# Altium integrated library Infineon_Power_Smart_Low-Side_&_High-Side_Switches.IntLib: 238 symbols (part 7 of 14)
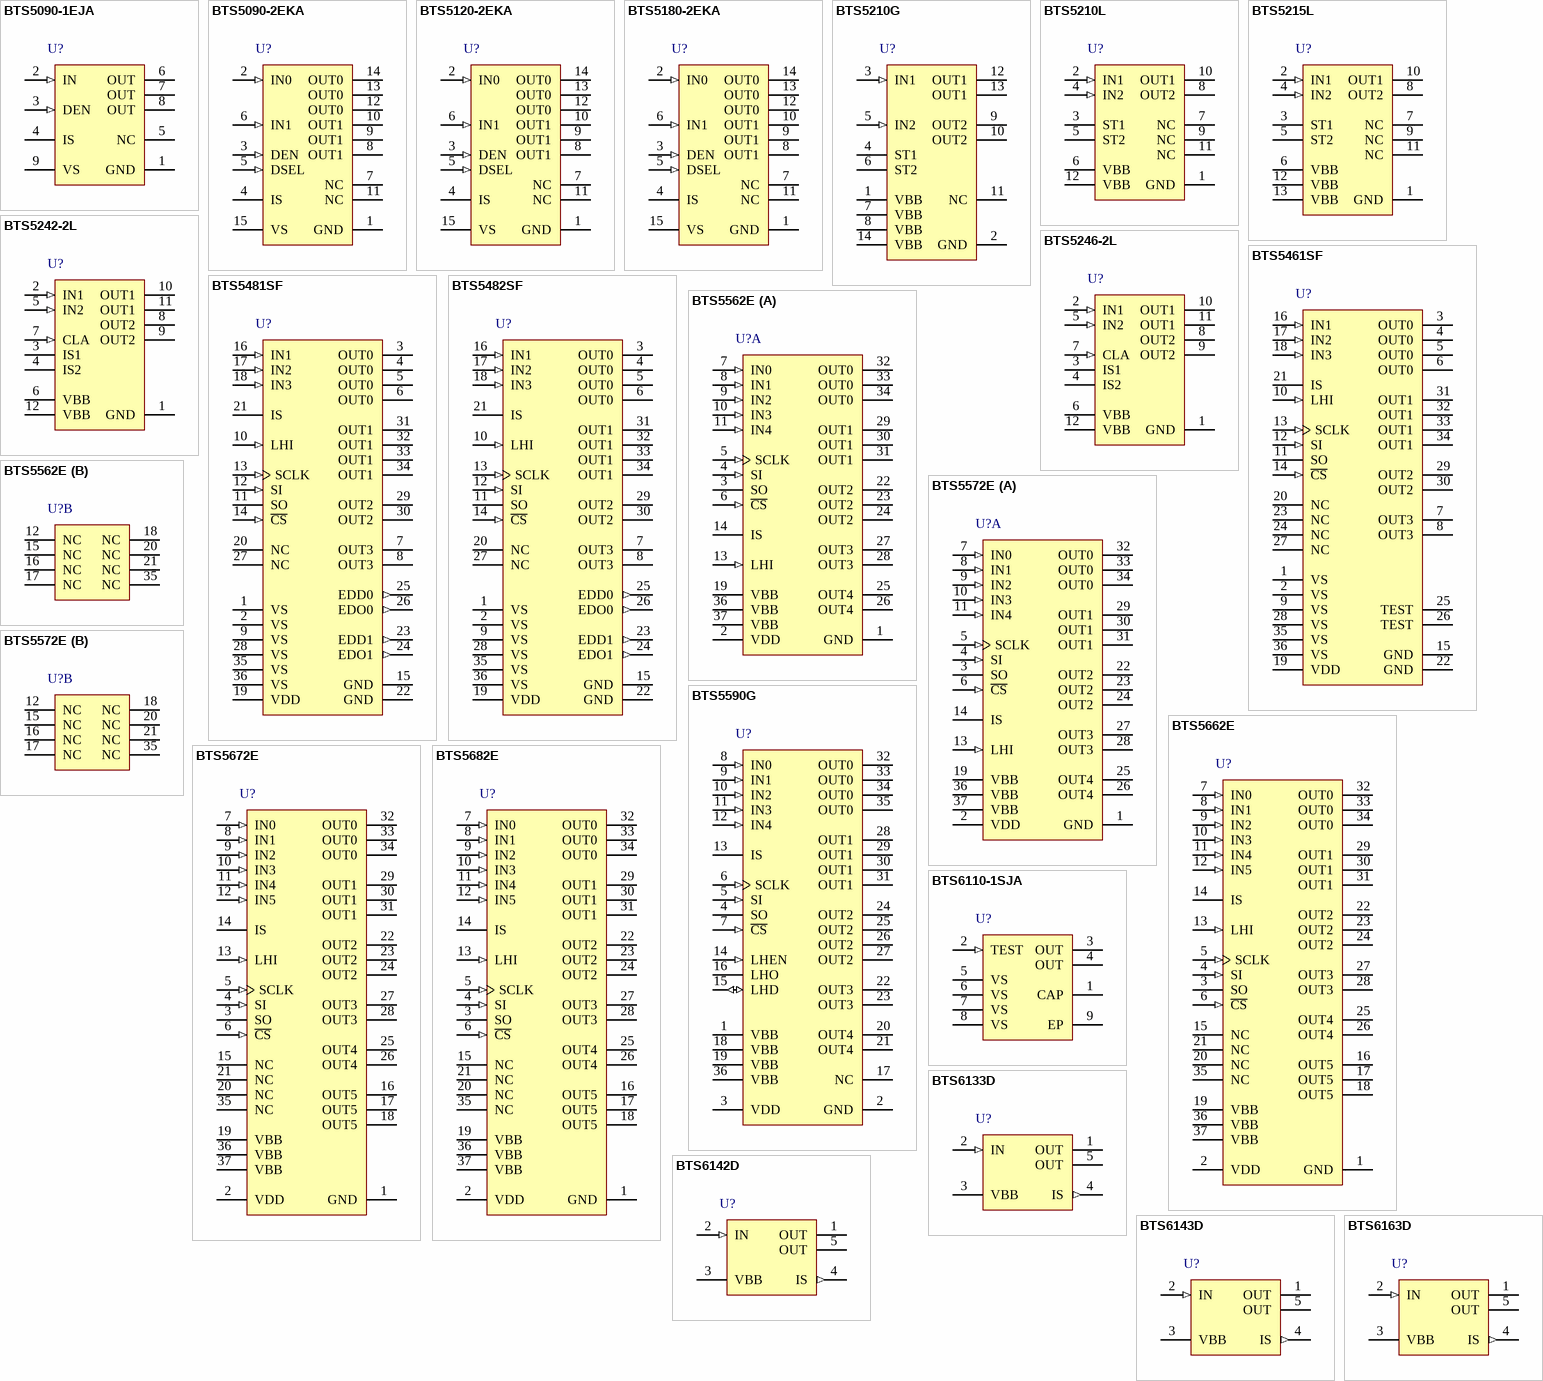
[diagram p13: symbols BTS5090-1EJA to BTS6163D]

## BTS5461SF
designator U?
4 Channels SPI Power Controller for Advanced Front Light Control, PG-DSO-36-43, Reel, Green; Manufacturer: Infineon; PartNumber: BTS5461SF; Adjustable Slewrate: FALSE; Channels: 4; Green: TRUE; DatasheetVersion: Rev. 1.0; PackageVersion: Nov-11; PackageReference: PG-DSO-36-43; PackageDescription: 36-Pin Plastic (Green) Dual Small Outline Package, 12.7 x 7.5 mm Body, 0.65 mm Pitch; Cranking mode: FALSE; External drive capability: FALSE; Halogen-free: TRUE; LED mode: TRUE; Packing: Reel; PWM engine integrated: FALSE; ReversaveTM: TRUE; Mounting Technology: Surface Mount; ComponentLink1Description: Manufacturer URL; ComponentLink1URL: http://www.infineon.com/; ComponentLink2Description: Datasheet; ComponentLink2URL: http://www.infineon.com/dgdl/BTS5461SF_DS10_2011-11-17.pdf?folderId=db3a304318f3fe2901191430ce780274&fileId=db3a304336797ff90136816fb7ec0e1c&location=en.Products.Automotive_ICs.Smart_High-_and_Low-Side_Switches.SPOC_-_SPI_Power_Controller.DATASHEET.BTS5461SF_DS10_2011-11-17.pdf; ComponentLink3Description: Package Specification; ComponentLink3URL: http://www.infineon.com/dgdl/BTS5481SF_DS10_2011-11-17.pdf?folderId=db3a304318f3fe2901191430ce780274&fileId=db3a304336797ff901368175ff540e31&sId=db3a30433d68e984013d7f6c334b74fb
footprint INF-PG-DSO-36-43_N (SOP, 36-Leads, Body 12.7x7.5mm, Pitch 0.65mm, IPC Medium Density)
footprint INF-PG-DSO-36-43_L (SOP, 36-Leads, Body 12.7x7.5mm, Pitch 0.65mm, IPC High Density)
footprint INF-PG-DSO-36-43_M (SOP, 36-Leads, Body 12.7x7.5mm, Pitch 0.65mm, IPC Low Density)
pins: 1 VS (power) "Positive power supply for high-side power switch", 2 VS (power) "Positive power supply for high-side power switch", 3 OUT0 (power) "Protected high-side power output of channel 0", 4 OUT0 (power) "Protected high-side power output of channel 0", 5 OUT0 (power) "Protected high-side power output of channel 0", 6 OUT0 (power) "Protected high-side power output of channel 0", 7 OUT3 (power) "Protected high-side power output of channel 3", 8 OUT3 (power) "Protected high-side power output of channel 3", 9 VS (power) "Positive power supply for high-side power switch", 10 LHI (in) "Limp home activation signal (high active)", 11 SO (hiz) "Serial output of SPI interface", 12 SI (in) "Serial input of SPI interface (high active)", 13 SCLK (in) "Serial clock of SPI interface", 14 ~{CS} (in) "Chip select of SPI interface (low active); Integrated pull up", 15 GND (power) "Ground connection", 16 IN1 (in) "Input signal of channel 1 (high active)", 17 IN2 (in) "Input signal of channel 2 (high active)", 18 IN3 (in) "Input signal of channel 3 (high active)", 19 VDD (power) "Logic supply (5 V)", 20 NC "not connected, internally not bonded", 21 IS (hiz) "Current sense output signal", 22 GND (power) "Ground connection", 23 NC "not connected, internally not bonded", 24 NC "not connected, internally not bonded", 25 TEST "Test pins, internally bonded and pulled down, do not connect", 26 TEST "Test pins, internally bonded and pulled down, do not connect", 27 NC "not connected, internally not bonded", 28 VS (power) "Positive power supply for high-side power switch", 29 OUT2 (power) "Protected high-side power output of channel 2", 30 OUT2 (power) "Protected high-side power output of channel 2", 31 OUT1 (power) "Protected high-side power output of channel 1", 32 OUT1 (power) "Protected high-side power output of channel 1", 33 OUT1 (power) "Protected high-side power output of channel 1", 34 OUT1 (power) "Protected high-side power output of channel 1", 35 VS (power) "Positive power supply for high-side power switch", 36 VS (power) "Positive power supply for high-side power switch"

## BTS5481SF
designator U?
4 Channels SPI Power Controller for Advanced Front Light Control, PG-DSO-36-43, Reel, Green; Manufacturer: Infineon; PartNumber: BTS5481SF; Adjustable Slewrate: FALSE; Channels: 4; External drive capability: TRUE; DatasheetVersion: Rev. 1.0; PackageVersion: Nov-11; PackageReference: PG-DSO-36-43; PackageDescription: 36-Pin Plastic (Green) Dual Small Outline Package, 12.7 x 7.5 mm Body, 0.65 mm Pitch; Cranking mode: FALSE; Green: TRUE; Halogen-free: TRUE; LED mode: TRUE; Packing: Reel; PWM engine integrated: FALSE; ReversaveTM: TRUE; Mounting Technology: Surface Mount; ComponentLink1Description: Manufacturer URL; ComponentLink1URL: http://www.infineon.com/; ComponentLink2Description: Datasheet; ComponentLink2URL: http://www.infineon.com/dgdl/BTS5481SF_DS10_2011-11-17.pdf?folderId=db3a304318f3fe2901191430ce780274&fileId=db3a304336797ff901368175ff540e31&location=en.Products.Automotive_ICs.Smart_High-_and_Low-Side_Switches.SPOC_-_SPI_Power_Controller.DATASHEET.BTS5481SF_DS10_2011-11-17.pdf; ComponentLink3Description: Package Specification; ComponentLink3URL: http://www.infineon.com/dgdl/BTS5481SF_DS10_2011-11-17.pdf?folderId=db3a304318f3fe2901191430ce780274&fileId=db3a304336797ff901368175ff540e31&sId=db3a30433d68e984013d7f6c334b74fb
footprint INF-PG-DSO-36-43_N (SOP, 36-Leads, Body 12.7x7.5mm, Pitch 0.65mm, IPC Medium Density)
footprint INF-PG-DSO-36-43_L (SOP, 36-Leads, Body 12.7x7.5mm, Pitch 0.65mm, IPC High Density)
footprint INF-PG-DSO-36-43_M (SOP, 36-Leads, Body 12.7x7.5mm, Pitch 0.65mm, IPC Low Density)
pins: 1 VS (power) "Positive power supply for high-side power switch", 2 VS (power) "Positive power supply for high-side power switch", 3 OUT0 (power) "Protected high-side power output of channel 0", 4 OUT0 (power) "Protected high-side power output of channel 0", 5 OUT0 (power) "Protected high-side power output of channel 0", 6 OUT0 (power) "Protected high-side power output of channel 0", 7 OUT3 (power) "Protected high-side power output of channel 3", 8 OUT3 (power) "Protected high-side power output of channel 3", 9 VS (power) "Positive power supply for high-side power switch", 10 LHI (in) "Limp home activation signal (high active)", 11 SO (hiz) "Serial output of SPI interface", 12 SI (in) "Serial input of SPI interface (high active)", 13 SCLK (in) "Serial clock of SPI interface", 14 ~{CS} (in) "Chip select of SPI interface (low active); Integrated pull up", 15 GND (power) "Ground connection", 16 IN1 (in) "Input signal of channel 1 (high active)", 17 IN2 (in) "Input signal of channel 2 (high active)", 18 IN3 (in) "Input signal of channel 3 (high active)", 19 VDD (power) "Logic supply (5 V)", 20 NC "not connected, internally not bonded", 21 IS (hiz) "Current sense output signal", 22 GND (power) "Ground connection", 23 EDD1 (out) "External driver diagnosis enable signal of external driver 1", 24 EDO1 (out) "External driver output for activation of external driver 1", 25 EDD0 (out) "External driver diagnosis enable signal of external driver 0", 26 EDO0 (out) "External driver output for activation of external driver 0", 27 NC "not connected, internally not bonded", 28 VS (power) "Positive power supply for high-side power switch", 29 OUT2 (power) "Protected high-side power output of channel 2", 30 OUT2 (power) "Protected high-side power output of channel 2", 31 OUT1 (power) "Protected high-side power output of channel 1", 32 OUT1 (power) "Protected high-side power output of channel 1", 33 OUT1 (power) "Protected high-side power output of channel 1", 34 OUT1 (power) "Protected high-side power output of channel 1", 35 VS (power) "Positive power supply for high-side power switch", 36 VS (power) "Positive power supply for high-side power switch"

## BTS5482SF
designator U?
SPI Power Controller For Advanced Front Light Control, PG-DSO-36, Reel, Green; Manufacturer: Infineon; PartNumber: BTS5482SF; Channel mix: 2*4,5mohm+2*11mohm; Channels: 4; External drive capability: TRUE; DatasheetVersion: Rev. 1.0; PackageVersion: Nov-11; PackageReference: PG-DSO-36-43; PackageDescription: 36-Pin Plastic (Green) Dual Small Outline Package, 12.7 x 7.5 mm Body, 0.65 mm Pitch; Supplier 1: Mouser; Supplier Part Number 1: N/A; Green: TRUE; Halogen-free: TRUE; LED mode: TRUE; Packing: Reel; Mounting Technology: Surface Mount; ComponentLink1Description: Manufacturer URL; ComponentLink1URL: http://www.infineon.com/; ComponentLink2Description: Datasheet; ComponentLink2URL: http://www.infineon.com/dgdl/BTS5482SF-Data-Sheet-10-Infineon-20130605.pdf?folderId=db3a304318f3fe2901191430ce780274&fileId=db3a30433f9a93b7013f9aa143ab0032; ComponentLink3Description: Package Specification; ComponentLink3URL: http://www.infineon.com/cms/packages/SMD_-_Surface_Mounted_Devices/P-PG-DSO/P-PG-DSO-36-20x_-29x_-34x_-43x_-44.html?__locale=en
footprint INF-PG-DSO-36-43_N (SOP, 36-Leads, Body 12.7x7.5mm, Pitch 0.65mm, IPC Medium Density)
footprint INF-PG-DSO-36-43_L (SOP, 36-Leads, Body 12.7x7.5mm, Pitch 0.65mm, IPC High Density)
footprint INF-PG-DSO-36-43_M (SOP, 36-Leads, Body 12.7x7.5mm, Pitch 0.65mm, IPC Low Density)
pins: 1 VS (power) "Positive power supply for high-side power switch", 2 VS (power) "Positive power supply for high-side power switch", 3 OUT0 (power) "Protected high-side power output of channel 0", 4 OUT0 (power) "Protected high-side power output of channel 0", 5 OUT0 (power) "Protected high-side power output of channel 0", 6 OUT0 (power) "Protected high-side power output of channel 0", 7 OUT3 (power) "Protected high-side power output of channel 3", 8 OUT3 (power) "Protected high-side power output of channel 3", 9 VS (power) "Positive power supply for high-side power switch", 10 LHI (in) "Limp home activation signal (high active)", 11 SO (hiz) "Serial output of SPI interface", 12 SI (in) "Serial input of SPI interface (high active)", 13 SCLK (in) "Serial clock of SPI interface", 14 ~{CS} (in) "Chip select of SPI interface (low active); Integrated pull up", 15 GND (power) "Ground connection", 16 IN1 (in) "Input signal of channel 1 (high active)", 17 IN2 (in) "Input signal of channel 2 (high active)", 18 IN3 (in) "Input signal of channel 3 (high active)", 19 VDD (power) "Logic supply (5 V)", 20 NC "not connected, internally not bonded", 21 IS (hiz) "Current sense output signal", 22 GND (power) "Ground connection", 23 EDD1 (out) "External driver diagnosis enable signal of external driver 1", 24 EDO1 (out) "External driver output for activation of external driver 1", 25 EDD0 (out) "External driver diagnosis enable signal of external driver 0", 26 EDO0 (out) "External driver output for activation of external driver 0", 27 NC "not connected, internally not bonded", 28 VS (power) "Positive power supply for high-side power switch", 29 OUT2 (power) "Protected high-side power output of channel 2", 30 OUT2 (power) "Protected high-side power output of channel 2", 31 OUT1 (power) "Protected high-side power output of channel 1", 32 OUT1 (power) "Protected high-side power output of channel 1", 33 OUT1 (power) "Protected high-side power output of channel 1", 34 OUT1 (power) "Protected high-side power output of channel 1", 35 VS (power) "Positive power supply for high-side power switch", 36 VS (power) "Positive power supply for high-side power switch"

## BTS5562E
designator U?
5 Channels SPI Power Controller, PG-DSO-36-36, Reel, Green; Manufacturer: Infineon; PartNumber: BTS5562E; Adjustable Slewrate: FALSE; Channels: 5; Green: TRUE; DatasheetVersion: Rev. 1.0; PackageVersion: Apr-09; PackageReference: PG-DSO-36-36; PackageDescription: 36-Pin Plastic (Green) Dual Small Outline Package, 12.7 x 7.5 mm Body, 0.65 mm Pitch; Supplier 1: Mouser; Supplier Part Number 1: 726-BTS5562E; Supplier 2: Digi-Key; Supplier Part Number 2: BTS5562E-ND; Cranking mode: FALSE; External drive capability: FALSE; Halogen-free: TRUE; LED mode: FALSE; Packing: Reel; PWM engine integrated: FALSE; ReversaveTM: FALSE; Mounting Technology: Surface Mount; ComponentLink1Description: Manufacturer URL; ComponentLink1URL: http://www.infineon.com/; ComponentLink2Description: Datasheet; ComponentLink2URL: http://www.infineon.com/dgdl/BTS5562E_DS_10.pdf?folderId=db3a304318f3fe2901191430ce780274&fileId=db3a3043284aacd80128687483327e11&location=en.Products.Automotive_ICs.Smart_High-_and_Low-Side_Switches.SPOC_-_SPI_Power_Controller.DATASHEET.BTS5562E_DS_10.pdf; ComponentLink3Description: Package Specification; ComponentLink3URL: http://www.infineon.com/dgdl/PG-DSO-36-25%2C+-28%2C+-36-Package_Overview.pdf?folderId=db3a304316f66ee801179ce1cb5c5f49&fileId=db3a304317a748360117e9b3171c55d1
footprint INF-PG-DSO-36-36_N (SOP, 36-Leads, Body 12.7x7.5mm, Pitch 0.65mm, Thermal Pad 6.8x4.2mm, IPC Medium Density)
footprint INF-PG-DSO-36-36_L (SOP, 36-Leads, Body 12.7x7.5mm, Pitch 0.65mm, Thermal Pad 6.8x4.2mm, IPC High Density)
footprint INF-PG-DSO-36-36_M (SOP, 36-Leads, Body 12.7x7.5mm, Pitch 0.65mm, Thermal Pad 6.8x4.2mm, IPC Low Density)
part A pins: 1 GND (power) "Ground connection", 2 VDD (power) "Logic supply (5 V)", 3 SO (hiz) "Serial output of SPI interface", 4 SI (in) "Serial input of SPI interface", 5 SCLK (in) "Serial clock of SPI interface", 6 ~{CS} (in) "Chip select of SPI interface (low active), Integrated pull up", 7 IN0 (in) "Input signal of channel 0", 8 IN1 (in) "Input signal of channel 1", 9 IN2 (in) "Input signal of channel 2", 10 IN3 (in) "Input signal of channel 3", 11 IN4 (in) "Input signal of channel 4", 13 LHI (in) "Limp home activation signal; Active high", 14 IS (hiz) "Diagnosis output signal", 19 VBB (power) "Positive power supply for high-side power switch", 22 OUT2 (power) "Protected high-side power output of channel 2", 23 OUT2 (power) "Protected high-side power output of channel 2", 24 OUT2 (power) "Protected high-side power output of channel 2", 25 OUT4 (power) "Protected high-side power output of channel 4", 26 OUT4 (power) "Protected high-side power output of channel 4", 27 OUT3 (power) "Protected high-side power output of channel 3", 28 OUT3 (power) "Protected high-side power output of channel 3", 29 OUT1 (power) "Protected high-side power output of channel 1", 30 OUT1 (power) "Protected high-side power output of channel 1", 31 OUT1 (power) "Protected high-side power output of channel 1", 32 OUT0 (power) "Protected high-side power output of channel 0", 33 OUT0 (power) "Protected high-side power output of channel 0", 34 OUT0 (power) "Protected high-side power output of channel 0", 36 VBB (power) "Positive power supply for high-side power switch", 37 VBB (power) "Positive power supply for high-side power switch"
part B pins: 12 NC "not connected, internally not bonded", 15 NC "not connected, internally not bonded", 16 NC "not connected, internally not bonded,shorted together", 17 NC "not connected, internally not bonded,shorted together", 18 NC "not connected, internally not bonded,shorted together", 20 NC "not connected, internally not bonded", 21 NC "not connected, internally not bonded", 35 NC "not connected, internally not bonded"

## BTS5572E
designator U?
5 Channels SPI Power Controller, PG-DSO-36-36, Reel, Green; Manufacturer: Infineon; PartNumber: BTS5572E; Adjustable Slewrate: FALSE; Channels: 5; Green: TRUE; DatasheetVersion: Rev. 1.0; PackageVersion: Apr-09; PackageReference: PG-DSO-36-36; PackageDescription: 36-Pin Plastic (Green) Dual Small Outline Package, 12.7 x 7.5 mm Body, 0.65 mm Pitch; Supplier 1: Mouser; Supplier Part Number 1: 726-BTS5572E; Supplier 2: Digi-Key; Supplier Part Number 2: BTS5572E-ND; Cranking mode: FALSE; External drive capability: FALSE; Halogen-free: TRUE; LED mode: TRUE; Packing: Reel; PWM engine integrated: FALSE; ReversaveTM: FALSE; Mounting Technology: Surface Mount; ComponentLink1Description: Manufacturer URL; ComponentLink1URL: http://www.infineon.com/; ComponentLink2Description: Datasheet; ComponentLink2URL: http://www.infineon.com/dgdl/BTS5572E_DS_10.pdf?folderId=db3a304318f3fe2901191430ce780274&fileId=db3a3043284aacd801286875ae657e16&location=en.Products.Automotive_ICs.Smart_High-_and_Low-Side_Switches.SPOC_-_SPI_Power_Controller.DATASHEET.BTS5572E_DS_10.pdf; ComponentLink3Description: Package Specification; ComponentLink3URL: http://www.infineon.com/dgdl/PG-DSO-36-25%2C+-28%2C+-36-Package_Overview.pdf?folderId=db3a304316f66ee801179ce1cb5c5f49&fileId=db3a304317a748360117e9b3171c55d1
footprint INF-PG-DSO-36-36_N (SOP, 36-Leads, Body 12.7x7.5mm, Pitch 0.65mm, Thermal Pad 6.8x4.2mm, IPC Medium Density)
footprint INF-PG-DSO-36-36_L (SOP, 36-Leads, Body 12.7x7.5mm, Pitch 0.65mm, Thermal Pad 6.8x4.2mm, IPC High Density)
footprint INF-PG-DSO-36-36_M (SOP, 36-Leads, Body 12.7x7.5mm, Pitch 0.65mm, Thermal Pad 6.8x4.2mm, IPC Low Density)
part A pins: 1 GND (power) "Ground connection", 2 VDD (power) "Logic supply (5 V)", 3 SO (hiz) "Serial output of SPI interface", 4 SI (in) "Serial input of SPI interface", 5 SCLK (in) "Serial clock of SPI interface", 6 ~{CS} (in) "Chip select of SPI interface (low active), Integrated pull up", 7 IN0 (in) "Input signal of channel 0", 8 IN1 (in) "Input signal of channel 1", 9 IN2 (in) "Input signal of channel 2", 10 IN3 (in) "Input signal of channel 3", 11 IN4 (in) "Input signal of channel 4", 13 LHI (in) "Limp home activation signal; Active high", 14 IS (hiz) "Diagnosis output signal", 19 VBB (power) "Positive power supply for high-side power switch", 22 OUT2 (power) "Protected high-side power output of channel 2", 23 OUT2 (power) "Protected high-side power output of channel 2", 24 OUT2 (power) "Protected high-side power output of channel 2", 25 OUT4 (power) "Protected high-side power output of channel 4", 26 OUT4 (power) "Protected high-side power output of channel 4", 27 OUT3 (power) "Protected high-side power output of channel 3", 28 OUT3 (power) "Protected high-side power output of channel 3", 29 OUT1 (power) "Protected high-side power output of channel 1", 30 OUT1 (power) "Protected high-side power output of channel 1", 31 OUT1 (power) "Protected high-side power output of channel 1", 32 OUT0 (power) "Protected high-side power output of channel 0", 33 OUT0 (power) "Protected high-side power output of channel 0", 34 OUT0 (power) "Protected high-side power output of channel 0", 36 VBB (power) "Positive power supply for high-side power switch", 37 VBB (power) "Positive power supply for high-side power switch"
part B pins: 12 NC "not connected, internally not bonded", 15 NC "not connected, internally not bonded", 16 NC "not connected, internally not bonded,shorted together", 17 NC "not connected, internally not bonded,shorted together", 18 NC "not connected, internally not bonded,shorted together", 20 NC "not connected, internally not bonded", 21 NC "not connected, internally not bonded", 35 NC "not connected, internally not bonded"

## BTS5590G
designator U?
5 Channels SPI Power Controller, PG-DSO-36-34, Reel, Green; Manufacturer: Infineon; PartNumber: BTS5590G; Adjustable Slewrate: FALSE; Channels: 5; Green: TRUE; DatasheetVersion: Rev. 1.3; PackageVersion: Oct-07; PackageReference: PG-DSO-36-34; PackageDescription: 36-Pin Plastic (Green) Dual Small Outline Package, 12.7 x 7.5 mm Body, 0.65 mm Pitch; Supplier 1: Mouser; Supplier Part Number 1: 726-BTS5590G; Supplier 2: Digi-Key; Supplier Part Number 2: BTS5590GTR-ND; Supplier 3: Digi-Key; Supplier Part Number 3: BTS5590GCT-ND; Supplier 4: Digi-Key; Supplier Part Number 4: BTS5590GDKR-ND; Cranking mode: FALSE; External drive capability: FALSE; Halogen-free: TRUE; LED mode: TRUE; Packing: Reel; PWM engine integrated: FALSE; ReversaveTM: FALSE; Mounting Technology: Surface Mount; ComponentLink1Description: Manufacturer URL; ComponentLink1URL: http://www.infineon.com/; ComponentLink2Description: Datasheet; ComponentLink2URL: http://www.infineon.com/dgdl/BTS5590G_DS_13.pdf?folderId=db3a304318f3fe2901191430ce780274&fileId=db3a3043284aacd80128687cb90c7e34&location=en.Products.Automotive_ICs.Smart_High-_and_Low-Side_Switches.SPOC_-_SPI_Power_Controller.DATASHEET.BTS5590G_DS_13.pdf; ComponentLink3Description: Package Specification; ComponentLink3URL: http://www.infineon.com/dgdl/BTS5590G_DS_13.pdf?folderId=db3a304318f3fe2901191430ce780274&fileId=db3a3043284aacd80128687cb90c7e34&sId=db3a30433d68e984013d7dcb6db75f21
footprint INF-PG-DSO-36-34_N (SOP, 36-Leads, Body 12.7x7.5mm, Pitch 0.65mm, IPC Medium Density)
footprint INF-PG-DSO-36-34_L (SOP, 36-Leads, Body 12.7x7.5mm, Pitch 0.65mm, IPC High Density)
footprint INF-PG-DSO-36-34_M (SOP, 36-Leads, Body 12.7x7.5mm, Pitch 0.65mm, IPC Low Density)
pins: 1 VBB (power) "Positive power supply for high-side power switch and limp home block", 2 GND (power) "Ground connection", 3 VDD (power) "Logic supply (5 V)", 4 SO (hiz) "Serial output of SPI interface", 5 SI (in) "Serial input of SPI interface", 6 SCLK (in) "Serial clock of SPI interface", 7 ~{CS} (in) "Chip select of SPI interface (low active)", 8 IN0 (in) "Input signal of channel 0", 9 IN1 (in) "Input signal of channel 1", 10 IN2 (in) "Input signal of channel 2", 11 IN3 (in) "Input signal of channel 3", 12 IN4 (in) "Input signal of channel 4", 13 IS (hiz) "Diagnosis output signal", 14 LHEN (in) "WD and LH Enable signal", 15 LHD (io) "Connection for external time base of watchdog", 16 LHO (hiz) "Limp Home output", 17 NC "not connected, floating", 18 VBB (power) "Positive power supply for high-side power switch and limp home block", 19 VBB (power) "Positive power supply for high-side power switch and limp home block", 20 OUT4 (power) "Protected high-side power output of channel 4", 21 OUT4 (power) "Protected high-side power output of channel 4", 22 OUT3 (power) "Protected high-side power output of channel 3", 23 OUT3 (power) "Protected high-side power output of channel 3", 24 OUT2 (power) "Protected high-side power output of channel 2", 25 OUT2 (power) "Protected high-side power output of channel 2", 26 OUT2 (power) "Protected high-side power output of channel 2", 27 OUT2 (power) "Protected high-side power output of channel 2", 28 OUT1 (power) "Protected high-side power output of channel 1", 29 OUT1 (power) "Protected high-side power output of channel 1", 30 OUT1 (power) "Protected high-side power output of channel 1", 31 OUT1 (power) "Protected high-side power output of channel 1", 32 OUT0 (power) "Protected high-side power output of channel 0", 33 OUT0 (power) "Protected high-side power output of channel 0", 34 OUT0 (power) "Protected high-side power output of channel 0", 35 OUT0 (power) "Protected high-side power output of channel 0", 36 VBB (power) "Positive power supply for high-side power switch and limp home block"

## BTS5662E
designator U?
6 Channels SPI Power Controller, PG-DSO-36-36, Reel, Green; Manufacturer: Infineon; PartNumber: BTS5662E; Adjustable Slewrate: FALSE; Channels: 6; Green: TRUE; DatasheetVersion: Rev. 1.0; PackageVersion: Apr-09; PackageReference: PG-DSO-36-36; PackageDescription: 36-Pin Plastic (Green) Dual Small Outline Package, 12.7 x 7.5 mm Body, 0.65 mm Pitch; Supplier 1: Mouser; Supplier Part Number 1: 726-BTS5662E; Supplier 2: Digi-Key; Supplier Part Number 2: BTS5662E-ND; Cranking mode: FALSE; External drive capability: FALSE; Halogen-free: TRUE; LED mode: FALSE; Packing: Reel; PWM engine integrated: FALSE; ReversaveTM: FALSE; Mounting Technology: Surface Mount; ComponentLink1Description: Manufacturer URL; ComponentLink1URL: http://www.infineon.com/; ComponentLink2Description: Datasheet; ComponentLink2URL: http://www.infineon.com/dgdl/BTS5662E_DS_10.pdf?folderId=db3a304318f3fe2901191430ce780274&fileId=db3a3043284aacd801286876c5e37e1b&location=en.Products.Automotive_ICs.Smart_High-_and_Low-Side_Switches.SPOC_-_SPI_Power_Controller.DATASHEET.BTS5662E_DS_10.pdf; ComponentLink3Description: Package Specification; ComponentLink3URL: http://www.infineon.com/dgdl/PG-DSO-36-25%2C+-28%2C+-36-Package_Overview.pdf?folderId=db3a304316f66ee801179ce1cb5c5f49&fileId=db3a304317a748360117e9b3171c55d1
footprint INF-PG-DSO-36-36_N (SOP, 36-Leads, Body 12.7x7.5mm, Pitch 0.65mm, Thermal Pad 6.8x4.2mm, IPC Medium Density)
footprint INF-PG-DSO-36-36_L (SOP, 36-Leads, Body 12.7x7.5mm, Pitch 0.65mm, Thermal Pad 6.8x4.2mm, IPC High Density)
footprint INF-PG-DSO-36-36_M (SOP, 36-Leads, Body 12.7x7.5mm, Pitch 0.65mm, Thermal Pad 6.8x4.2mm, IPC Low Density)
pins: 1 GND (power) "Ground connection", 2 VDD (power) "Logic supply (5 V)", 3 SO (hiz) "Serial output of SPI interface", 4 SI (in) "Serial input of SPI interface", 5 SCLK (in) "Serial clock of SPI interface", 6 ~{CS} (in) "Chip select of SPI interface (low active), Integrated pull up", 7 IN0 (in) "Input signal of channel 0", 8 IN1 (in) "Input signal of channel 1", 9 IN2 (in) "Input signal of channel 2", 10 IN3 (in) "Input signal of channel 3", 11 IN4 (in) "Input signal of channel 4", 12 IN5 (in) "Input signal of channel 5", 13 LHI (in) "Limp home activation signal; Active high", 14 IS (hiz) "Diagnosis output signal", 15 NC "not connected, internally not bonded", 16 OUT5 (power) "Protected high-side power output of channel 5", 17 OUT5 (power) "Protected high-side power output of channel 5", 18 OUT5 (power) "Protected high-side power output of channel 5", 19 VBB (power) "Positive power supply for high-side power switch", 20 NC "not connected, internally not bonded", 21 NC "not connected, internally not bonded", 22 OUT2 (power) "Protected high-side power output of channel 2", 23 OUT2 (power) "Protected high-side power output of channel 2", 24 OUT2 (power) "Protected high-side power output of channel 2", 25 OUT4 (power) "Protected high-side power output of channel 4", 26 OUT4 (power) "Protected high-side power output of channel 4", 27 OUT3 (power) "Protected high-side power output of channel 3", 28 OUT3 (power) "Protected high-side power output of channel 3", 29 OUT1 (power) "Protected high-side power output of channel 1", 30 OUT1 (power) "Protected high-side power output of channel 1", 31 OUT1 (power) "Protected high-side power output of channel 1", 32 OUT0 (power) "Protected high-side power output of channel 0", 33 OUT0 (power) "Protected high-side power output of channel 0", 34 OUT0 (power) "Protected high-side power output of channel 0", 35 NC "not connected, internally not bonded", 36 VBB (power) "Positive power supply for high-side power switch", 37 VBB (power) "Positive power supply for high-side power switch"

## BTS5672E
designator U?
6 Channels SPI Power Controller, PG-DSO-36-36, Reel, Green; Manufacturer: Infineon; PartNumber: BTS5672E; Adjustable Slewrate: FALSE; Channels: 6; Green: TRUE; DatasheetVersion: Rev. 1.0; PackageVersion: Apr-09; PackageReference: PG-DSO-36-36; PackageDescription: 36-Pin Plastic (Green) Dual Small Outline Package, 12.7 x 7.5 mm Body, 0.65 mm Pitch; Supplier 1: Mouser; Supplier Part Number 1: 726-BTS5672E; Supplier 2: Digi-Key; Supplier Part Number 2: BTS5672E-ND; Cranking mode: FALSE; External drive capability: FALSE; Halogen-free: TRUE; LED mode: TRUE; Packing: Reel; PWM engine integrated: FALSE; ReversaveTM: FALSE; Mounting Technology: Surface Mount; ComponentLink1Description: Manufacturer URL; ComponentLink1URL: http://www.infineon.com/; ComponentLink2Description: Datasheet; ComponentLink2URL: http://www.infineon.com/dgdl/BTS5672E_DS_10.pdf?folderId=db3a304318f3fe2901191430ce780274&fileId=db3a3043284aacd801286877ae8b7e20&location=en.Products.Automotive_ICs.Smart_High-_and_Low-Side_Switches.SPOC_-_SPI_Power_Controller.DATASHEET.BTS5672E_DS_10.pdf; ComponentLink3Description: Package Specification; ComponentLink3URL: http://www.infineon.com/dgdl/PG-DSO-36-25%2C+-28%2C+-36-Package_Overview.pdf?folderId=db3a304316f66ee801179ce1cb5c5f49&fileId=db3a304317a748360117e9b3171c55d1
footprint INF-PG-DSO-36-36_N (SOP, 36-Leads, Body 12.7x7.5mm, Pitch 0.65mm, Thermal Pad 6.8x4.2mm, IPC Medium Density)
footprint INF-PG-DSO-36-36_L (SOP, 36-Leads, Body 12.7x7.5mm, Pitch 0.65mm, Thermal Pad 6.8x4.2mm, IPC High Density)
footprint INF-PG-DSO-36-36_M (SOP, 36-Leads, Body 12.7x7.5mm, Pitch 0.65mm, Thermal Pad 6.8x4.2mm, IPC Low Density)
pins: 1 GND (power) "Ground connection", 2 VDD (power) "Logic supply (5 V)", 3 SO (hiz) "Serial output of SPI interface", 4 SI (in) "Serial input of SPI interface", 5 SCLK (in) "Serial clock of SPI interface", 6 ~{CS} (in) "Chip select of SPI interface (low active), Integrated pull up", 7 IN0 (in) "Input signal of channel 0", 8 IN1 (in) "Input signal of channel 1", 9 IN2 (in) "Input signal of channel 2", 10 IN3 (in) "Input signal of channel 3", 11 IN4 (in) "Input signal of channel 4", 12 IN5 (in) "Input signal of channel 5", 13 LHI (in) "Limp home activation signal; Active high", 14 IS (hiz) "Diagnosis output signal", 15 NC "not connected, internally not bonded", 16 OUT5 (power) "Protected high-side power output of channel 5", 17 OUT5 (power) "Protected high-side power output of channel 5", 18 OUT5 (power) "Protected high-side power output of channel 5", 19 VBB (power) "Positive power supply for high-side power switch", 20 NC "not connected, internally not bonded", 21 NC "not connected, internally not bonded", 22 OUT2 (power) "Protected high-side power output of channel 2", 23 OUT2 (power) "Protected high-side power output of channel 2", 24 OUT2 (power) "Protected high-side power output of channel 2", 25 OUT4 (power) "Protected high-side power output of channel 4", 26 OUT4 (power) "Protected high-side power output of channel 4", 27 OUT3 (power) "Protected high-side power output of channel 3", 28 OUT3 (power) "Protected high-side power output of channel 3", 29 OUT1 (power) "Protected high-side power output of channel 1", 30 OUT1 (power) "Protected high-side power output of channel 1", 31 OUT1 (power) "Protected high-side power output of channel 1", 32 OUT0 (power) "Protected high-side power output of channel 0", 33 OUT0 (power) "Protected high-side power output of channel 0", 34 OUT0 (power) "Protected high-side power output of channel 0", 35 NC "not connected, internally not bonded", 36 VBB (power) "Positive power supply for high-side power switch", 37 VBB (power) "Positive power supply for high-side power switch"

## BTS5682E
designator U?
6 Channels SPI Power Controller, PG-DSO-36-36, Reel, Green; Manufacturer: Infineon; PartNumber: BTS5682E; Adjustable Slewrate: FALSE; Channels: 6; Cranking mode: TRUE; DatasheetVersion: Rev. 1.0; PackageVersion: Apr-09; PackageReference: PG-DSO-36-36; PackageDescription: 36-Pin Plastic (Green) Dual Small Outline Package, 12.7 x 7.5 mm Body, 0.65 mm Pitch; Supplier 1: Mouser; Supplier Part Number 1: 726-BTS5682E; Supplier 2: Digi-Key; Supplier Part Number 2: BTS5682E-ND; External drive capability: FALSE; Green: TRUE; Halogen-free: TRUE; LED mode: TRUE; Packing: Reel; PWM engine integrated: FALSE; ReversaveTM: FALSE; Mounting Technology: Surface Mount; ComponentLink1Description: Manufacturer URL; ComponentLink1URL: http://www.infineon.com/; ComponentLink2Description: Datasheet; ComponentLink2URL: http://www.infineon.com/dgdl/BTS5682E_DS_10.pdf?folderId=db3a304318f3fe2901191430ce780274&fileId=db3a3043284aacd801286878b4a07e25&location=en.Products.Automotive_ICs.Smart_High-_and_Low-Side_Switches.SPOC_-_SPI_Power_Controller.DATASHEET.BTS5682E_DS_10.pdf; ComponentLink3Description: Package Specification; ComponentLink3URL: http://www.infineon.com/dgdl/PG-DSO-36-25%2C+-28%2C+-36-Package_Overview.pdf?folderId=db3a304316f66ee801179ce1cb5c5f49&fileId=db3a304317a748360117e9b3171c55d1
footprint INF-PG-DSO-36-36_N (SOP, 36-Leads, Body 12.7x7.5mm, Pitch 0.65mm, Thermal Pad 6.8x4.2mm, IPC Medium Density)
footprint INF-PG-DSO-36-36_L (SOP, 36-Leads, Body 12.7x7.5mm, Pitch 0.65mm, Thermal Pad 6.8x4.2mm, IPC High Density)
footprint INF-PG-DSO-36-36_M (SOP, 36-Leads, Body 12.7x7.5mm, Pitch 0.65mm, Thermal Pad 6.8x4.2mm, IPC Low Density)
pins: 1 GND (power) "Ground connection", 2 VDD (power) "Logic supply (5 V)", 3 SO (hiz) "Serial output of SPI interface", 4 SI (in) "Serial input of SPI interface", 5 SCLK (in) "Serial clock of SPI interface", 6 ~{CS} (in) "Chip select of SPI interface (low active), Integrated pull up", 7 IN0 (in) "Input signal of channel 0", 8 IN1 (in) "Input signal of channel 1", 9 IN2 (in) "Input signal of channel 2", 10 IN3 (in) "Input signal of channel 3", 11 IN4 (in) "Input signal of channel 4", 12 IN5 (in) "Input signal of channel 5", 13 LHI (in) "Limp home activation signal; Active high", 14 IS (hiz) "Diagnosis output signal", 15 NC "not connected, internally not bonded", 16 OUT5 (power) "Protected high-side power output of channel 5", 17 OUT5 (power) "Protected high-side power output of channel 5", 18 OUT5 (power) "Protected high-side power output of channel 5", 19 VBB (power) "Positive power supply for high-side power switch", 20 NC "not connected, internally not bonded", 21 NC "not connected, internally not bonded", 22 OUT2 (power) "Protected high-side power output of channel 2", 23 OUT2 (power) "Protected high-side power output of channel 2", 24 OUT2 (power) "Protected high-side power output of channel 2", 25 OUT4 (power) "Protected high-side power output of channel 4", 26 OUT4 (power) "Protected high-side power output of channel 4", 27 OUT3 (power) "Protected high-side power output of channel 3", 28 OUT3 (power) "Protected high-side power output of channel 3", 29 OUT1 (power) "Protected high-side power output of channel 1", 30 OUT1 (power) "Protected high-side power output of channel 1", 31 OUT1 (power) "Protected high-side power output of channel 1", 32 OUT0 (power) "Protected high-side power output of channel 0", 33 OUT0 (power) "Protected high-side power output of channel 0", 34 OUT0 (power) "Protected high-side power output of channel 0", 35 NC "not connected, internally not bonded", 36 VBB (power) "Positive power supply for high-side power switch", 37 VBB (power) "Positive power supply for high-side power switch"

## BTS6110-1SJA
designator U?
Smart High-Side Power Switch, 9 V to 16 V, -40 to 150 degC, PG-DSO-8, Reel, Green; Manufacturer: Infineon; PartNumber: BTS6110-1SJA; Channels: 1; Green: TRUE; Load Current (typ): 1.269 A; Ptot (max): 1.4 W; Recommended Operating Voltage Max.: 16 V; Recommended Operating Voltage Min.: 9 V; RON (max) @ Tj: 150degreesC=200 mOhm; RON @ Tj: 25degreesC=80 mOhm; toff (max): 70 us; DatasheetVersion: Rev. 1.0; PackageVersion: V01, 06/2012; PackageReference: PG-DSO-8-27; PackageDescription: 8-Pin Plastic (Green) Dual Small Outline Package, 4.9 x 3.9 mm Body, 1.27 mm Pitch; Supplier 1: Mouser; Supplier Part Number 1: N/A; Halogen-free: TRUE; Mounting: SMT; Packing: Reel; ton (max): 70 us; Mounting Technology: Surface Mount; Code_JEDEC: MS-012; ComponentLink1Description: Manufacturer URL; ComponentLink1URL: http://www.infineon.com/; ComponentLink2Description: Datasheet; ComponentLink2URL: http://www.infineon.com/dgdl/BTS6110-1SJA_Data-Sheet-10-Infineon.pdf?folderId=db3a30431400ef68011421b54e2e0564&fileId=db3a304344918c3c014491b76b78009b; ComponentLink3Description: Package Specification; ComponentLink3URL: http://www.infineon.com/cms/packages/SMD_-_Surface_Mounted_Devices/P-PG-DSO/P-PG-DSO-08-27.html?__locale=en
footprint INF-PG-DSO-8-27_N (SOP, 8-Leads, Body 4.9x3.9mm, Pitch 1.27mm, Thermal Pad 3.2x2.85mm, IPC Medium Density)
footprint INF-PG-DSO-8-27_L (SOP, 8-Leads, Body 4.9x3.9mm, Pitch 1.27mm, Thermal Pad 3.2x2.85mm, IPC High Density)
footprint INF-PG-DSO-8-27_M (SOP, 8-Leads, Body 4.9x3.9mm, Pitch 1.27mm, Thermal Pad 3.2x2.85mm, IPC Low Density)
pins: 1 CAP "CAPacitor; Must be connected to OUT via a reservoir capacitor", 2 TEST (in) "TEST MODE PIN; Must be connected to OUT", 3 OUT (power) "OUTput; Protected high side power output channel", 4 OUT (power) "OUTput; Protected high side power output channel", 5 VS (power) "Voltage Supply; Battery voltage", 6 VS (power) "Voltage Supply; Battery voltage", 7 VS (power) "Voltage Supply; Battery voltage", 8 VS (power) "Voltage Supply; Battery voltage", 9 EP

## BTS6133D
designator U?
PROFET Smart Highside Power Switch, 1 Channel, 10 A Load Current, -40 to 150 degC, PG-TO252-5-11, Reel, Green; Manufacturer: Infineon; PartNumber: BTS6133D; Channels: 1; Green: TRUE; Group: Automotive Qualified; Load Current (typ): 10 A; Ptot (max): 59 W; Recommended Operating Voltage Max.: 38 V; Recommended Operating Voltage Min.: 5.5 V; RON @ 25degreesC: 10 mOhm; RON(max) @ 150degreesC: 18 mOhm; toff (max): 500 us; DatasheetVersion: Rev. 1.0; PackageVersion: Nov-10; PackageReference: PG-TO252-5-11; PackageDescription: 5-Pin Plastic (Green) Transistor Single Outline Package, 6.5 x 6.12 mm Body, 1.14 mm Pitch; Supplier 1: Mouser; Supplier Part Number 1: 726-BTS6133D; Supplier 2: Newark; Supplier Part Number 2: 58M4078; Supplier 3: Farnell; Supplier Part Number 3: 1440811; Supplier 4: Farnell; Supplier Part Number 4: 1440811RL; Supplier 5: Digi-Key; Supplier Part Number 5: BTS6133DTR-ND; Supplier 6: Digi-Key; Supplier Part Number 6: BTS6133DCT-ND; Supplier 7: Digi-Key; Supplier Part Number 7: BTS6133DDKR-ND; Halogen-free: TRUE; Packing: Reel; ton (max): 500 us; Mounting Technology: Surface Mount; ComponentLink1Description: Manufacturer URL; ComponentLink1URL: http://www.infineon.com/; ComponentLink2Description: Datasheet; ComponentLink2URL: http://www.infineon.com/dgdl/BTS6133D_DS_v10.pdf?folderId=db3a304412b407950112b408e8c90004&fileId=db3a3043183a955501186061f99d3666&location=en.Products.Automotive_ICs.Smart_High-_and_Low-Side_Switches.PROFET__-_Smart_High_Side_Switches.DATASHEET.BTS6133D_DS_v10.pdf; ComponentLink3Description: Package Specification; ComponentLink3URL: http://www.infineon.com/dgdl/TLE7276-Data+Sheet-+v1_11.pdf?folderId=db3a304412b407950112b408e8c90004&fileId=db3a304412b407950112b436c53f66c8&sId=db3a30433db6f09f013dc0e43c0428c1
footprint INF-PG-TO252-5-11_N (DPAK, 5-Leads, Body 6.5x6.12mm, Pitch 1.14mm, IPC Medium Density)
footprint INF-PG-TO252-5-11_L (DPAK, 5-Leads, Body 6.5x6.12mm, Pitch 1.14mm, IPC High Density)
footprint INF-PG-TO252-5-11_M (DPAK, 5-Leads, Body 6.5x6.12mm, Pitch 1.14mm, IPC Low Density)
pins: 1 OUT (hiz) "Output; output to the load; pin 1 and 5 must be externally shorted.", 2 IN (in) "Input; activates the power switch if shorted to ground.", 3 VBB (power) "Supply Voltage; positive power supply voltage; tab and pin 3 are internally shorted.", 4 IS (out) "Sense Output; Diagnostic feedback; provides at normal operation a sense current proportional to the load current; in case of overload, overtemperature and/or short circuit a defined current is provided.", 5 OUT (hiz) "Output; output to the load; pin 1 and 5 must be externally shorted."

## BTS6142D
designator U?
Smart High-Side Power Switch PROFET, 12 mOhm, 1 Channel, 8.5 A Load Current, -40 to 150 degC, PG-TO252-5-11, Reel, Green; Manufacturer: Infineon; PartNumber: BTS6142D; Channels: 1; Green: TRUE; Group: Automotive Qualified; Load Current (typ): 8.5 A; Ptot (max): 50 W; Recommended Operating Voltage Max.: 24 V; Recommended Operating Voltage Min.: 5.5 V; RON @ 25degreesC: 12 mOhm; RON(max) @ 150degreesC: 22 mOhm; toff (max): 600 us; DatasheetVersion: Rev. 1.1; PackageVersion: Nov-10; PackageReference: PG-TO252-5-11; PackageDescription: 5-Pin Plastic (Green) Transistor Single Outline Package, 6.5 x 6.12 mm Body, 1.14 mm Pitch; Supplier 1: Mouser; Supplier Part Number 1: 726-BTS6142D; Supplier 2: Newark; Supplier Part Number 2: 78X4838; Supplier 3: Farnell; Supplier Part Number 3: 2432496; Supplier 4: Digi-Key; Supplier Part Number 4: BTS6142DTR-ND; Supplier 5: Digi-Key; Supplier Part Number 5: BTS6142DCT-ND; Supplier 6: Digi-Key; Supplier Part Number 6: BTS6142DDKR-ND; Halogen-free: TRUE; Packing: Reel; ton (max): 600 us; Mounting Technology: Surface Mount; ComponentLink1Description: Manufacturer URL; ComponentLink1URL: http://www.infineon.com/; ComponentLink2Description: Datasheet; ComponentLink2URL: http://www.infineon.com/dgdl/BTS6142D_DS_v11.pdf?folderId=db3a304314dca389011537739e37155f&fileId=db3a3043183a9555011860661a7d367a&location=en.Products.Automotive_ICs.Smart_High-_and_Low-Side_Switches.PROFET__-_Smart_High_Side_Switches.DATASHEET.BTS6142D_DS_v11.pdf; ComponentLink3Description: Package Specification; ComponentLink3URL: http://www.infineon.com/dgdl/TLE7276-Data+Sheet-+v1_11.pdf?folderId=db3a304412b407950112b408e8c90004&fileId=db3a304412b407950112b436c53f66c8&sId=db3a30433db6f09f013dc0e43c0428c1
footprint INF-PG-TO252-5-11_N (DPAK, 5-Leads, Body 6.5x6.12mm, Pitch 1.14mm, IPC Medium Density)
footprint INF-PG-TO252-5-11_L (DPAK, 5-Leads, Body 6.5x6.12mm, Pitch 1.14mm, IPC High Density)
footprint INF-PG-TO252-5-11_M (DPAK, 5-Leads, Body 6.5x6.12mm, Pitch 1.14mm, IPC Low Density)
pins: 1 OUT (hiz) "Output; output to the load; pin 1 and 5 must be externally shorted.", 2 IN (in) "Input; activates the power switch if shorted to ground.", 3 VBB (power) "Supply Voltage; positive power supply voltage; tab and pin 3 are internally shorted.", 4 IS (out) "Sense Output; Diagnostic feedback; provides at normal operation a sense current proportional to the load current; in case of overload, overtemperature and/or short circuit a defined current is provided.", 5 OUT (hiz) "Output; output to the load; pin 1 and 5 must be externally shorted."

## BTS6143D
designator U?
PROFET Smart Highside Power Switch, 1 Channel, 10 A Load Current, -40 to 150 degC, PG-TO252-5-11, Reel, Green; Manufacturer: Infineon; PartNumber: BTS6143D; Channels: 1; Green: TRUE; Group: Automotive Qualified; Load Current (typ): 10 A; Ptot (max): 59 W; Recommended Operating Voltage Max.: 38 V; Recommended Operating Voltage Min.: 5.5 V; RON @ 25degreesC: 10 mOhm; RON(max) @ 150degreesC: 18 mOhm; toff (max): 500 us; DatasheetVersion: Rev. 1.0; PackageVersion: Nov-10; PackageReference: PG-TO252-5-11; PackageDescription: 5-Pin Plastic (Green) Transistor Single Outline Package, 6.5 x 6.12 mm Body, 1.14 mm Pitch; Supplier 1: Mouser; Supplier Part Number 1: 726-BTS6143D; Supplier 2: Newark; Supplier Part Number 2: 58M4080; Supplier 3: Farnell; Supplier Part Number 3: 1440813; Supplier 4: Farnell; Supplier Part Number 4: 1440813RL; Supplier 5: Digi-Key; Supplier Part Number 5: BTS6143DINTR-ND; Supplier 6: Digi-Key; Supplier Part Number 6: BTS6143DINCT-ND; Supplier 7: Digi-Key; Supplier Part Number 7: BTS6143DINDKR-ND; Halogen-free: TRUE; Packing: Reel; ton (max): 500 us; Mounting Technology: Surface Mount; ComponentLink1Description: Manufacturer URL; ComponentLink1URL: http://www.infineon.com/; ComponentLink2Description: Datasheet; ComponentLink2URL: http://www.infineon.com/dgdl/BTS6143D_DS_v10.pdf?folderId=db3a304314dca389011537739e37155f&fileId=db3a3043183a95550118606a2705368e&location=en.Products.Automotive_ICs.Smart_High-_and_Low-Side_Switches.PROFET__-_Smart_High_Side_Switches.DATASHEET.BTS6143D_DS_v10.pdf; ComponentLink3Description: Package Specification; ComponentLink3URL: http://www.infineon.com/dgdl/TLE7276-Data+Sheet-+v1_11.pdf?folderId=db3a304412b407950112b408e8c90004&fileId=db3a304412b407950112b436c53f66c8&sId=db3a30433db6f09f013dc0e43c0428c1
footprint INF-PG-TO252-5-11_N (DPAK, 5-Leads, Body 6.5x6.12mm, Pitch 1.14mm, IPC Medium Density)
footprint INF-PG-TO252-5-11_L (DPAK, 5-Leads, Body 6.5x6.12mm, Pitch 1.14mm, IPC High Density)
footprint INF-PG-TO252-5-11_M (DPAK, 5-Leads, Body 6.5x6.12mm, Pitch 1.14mm, IPC Low Density)
pins: 1 OUT (hiz) "Output; output to the load; pin 1 and 5 must be externally shorted.", 2 IN (in) "Input; activates the power switch if shorted to ground.", 3 VBB (power) "Supply Voltage; positive power supply voltage; tab and pin 3 are internally shorted.", 4 IS (out) "Sense Output; Diagnostic feedback; provides at normal operation a sense current proportional to the load current; in case of overload, overtemperature and/or short circuit a defined current is provided.", 5 OUT (hiz) "Output; output to the load; pin 1 and 5 must be externally shorted."

## BTS6163D
designator U?
PROFET Smart Highside Power Switch, 1 Channel, 6.5 A Load Current, -40 to 150 degC, PG-TO252-5-11, Reel, Green; Manufacturer: Infineon; PartNumber: BTS6163D; Channels: 1; Green: TRUE; Group: Automotive Qualified; Load Current (typ): 6.5 A; Ptot (max): 59 W; Recommended Operating Voltage Max.: 62 V; Recommended Operating Voltage Min.: 5.5 V; RON @ 25degreesC: 20 mOhm; RON(max) @ 150degreesC: 40 mOhm; toff (max): 500 us; ton (max): 300 us; DatasheetVersion: Rev. 1.0; PackageVersion: Nov-10; PackageReference: PG-TO252-5-11; PackageDescription: 5-Pin Plastic (Green) Transistor Single Outline Package, 6.5 x 6.12 mm Body, 1.14 mm Pitch; Supplier 1: Mouser; Supplier Part Number 1: 726-BTS6163D; Supplier 2: Newark; Supplier Part Number 2: 78X4839; Supplier 3: Farnell; Supplier Part Number 3: 2432497; Supplier 4: Digi-Key; Supplier Part Number 4: BTS6163DINTR-ND; Supplier 5: Digi-Key; Supplier Part Number 5: BTS6163DINCT-ND; Supplier 6: Digi-Key; Supplier Part Number 6: BTS6163DINDKR-ND; Halogen-free: TRUE; Packing: Reel; Mounting Technology: Surface Mount; ComponentLink1Description: Manufacturer URL; ComponentLink1URL: http://www.infineon.com/; ComponentLink2Description: Datasheet; ComponentLink2URL: http://www.infineon.com/dgdl/BTS6163D_DS_v10.pdf?folderId=db3a304314dca389011537739e37155f&fileId=db3a3043183a95550118606cdf2336a2&location=en.Products.Automotive_ICs.Smart_High-_and_Low-Side_Switches.PROFET__-_Smart_High_Side_Switches.DATASHEET.BTS6163D_DS_v10.pdf; ComponentLink3Description: Package Specification; ComponentLink3URL: http://www.infineon.com/dgdl/TLE7276-Data+Sheet-+v1_11.pdf?folderId=db3a304412b407950112b408e8c90004&fileId=db3a304412b407950112b436c53f66c8&sId=db3a30433db6f09f013dc0e43c0428c1
footprint INF-PG-TO252-5-11_N (DPAK, 5-Leads, Body 6.5x6.12mm, Pitch 1.14mm, IPC Medium Density)
footprint INF-PG-TO252-5-11_L (DPAK, 5-Leads, Body 6.5x6.12mm, Pitch 1.14mm, IPC High Density)
footprint INF-PG-TO252-5-11_M (DPAK, 5-Leads, Body 6.5x6.12mm, Pitch 1.14mm, IPC Low Density)
pins: 1 OUT (hiz) "Output; output to the load; pin 1 and 5 must be externally shorted.", 2 IN (in) "Input; activates the power switch if shorted to ground.", 3 VBB (power) "Supply Voltage; positive power supply voltage; tab and pin 3 are internally shorted.", 4 IS (out) "Sense Output; Diagnostic feedback; provides at normal operation a sense current proportional to the load current; in case of overload, overtemperature and/or short circuit a defined current is provided.", 5 OUT (hiz) "Output; output to the load; pin 1 and 5 must be externally shorted."

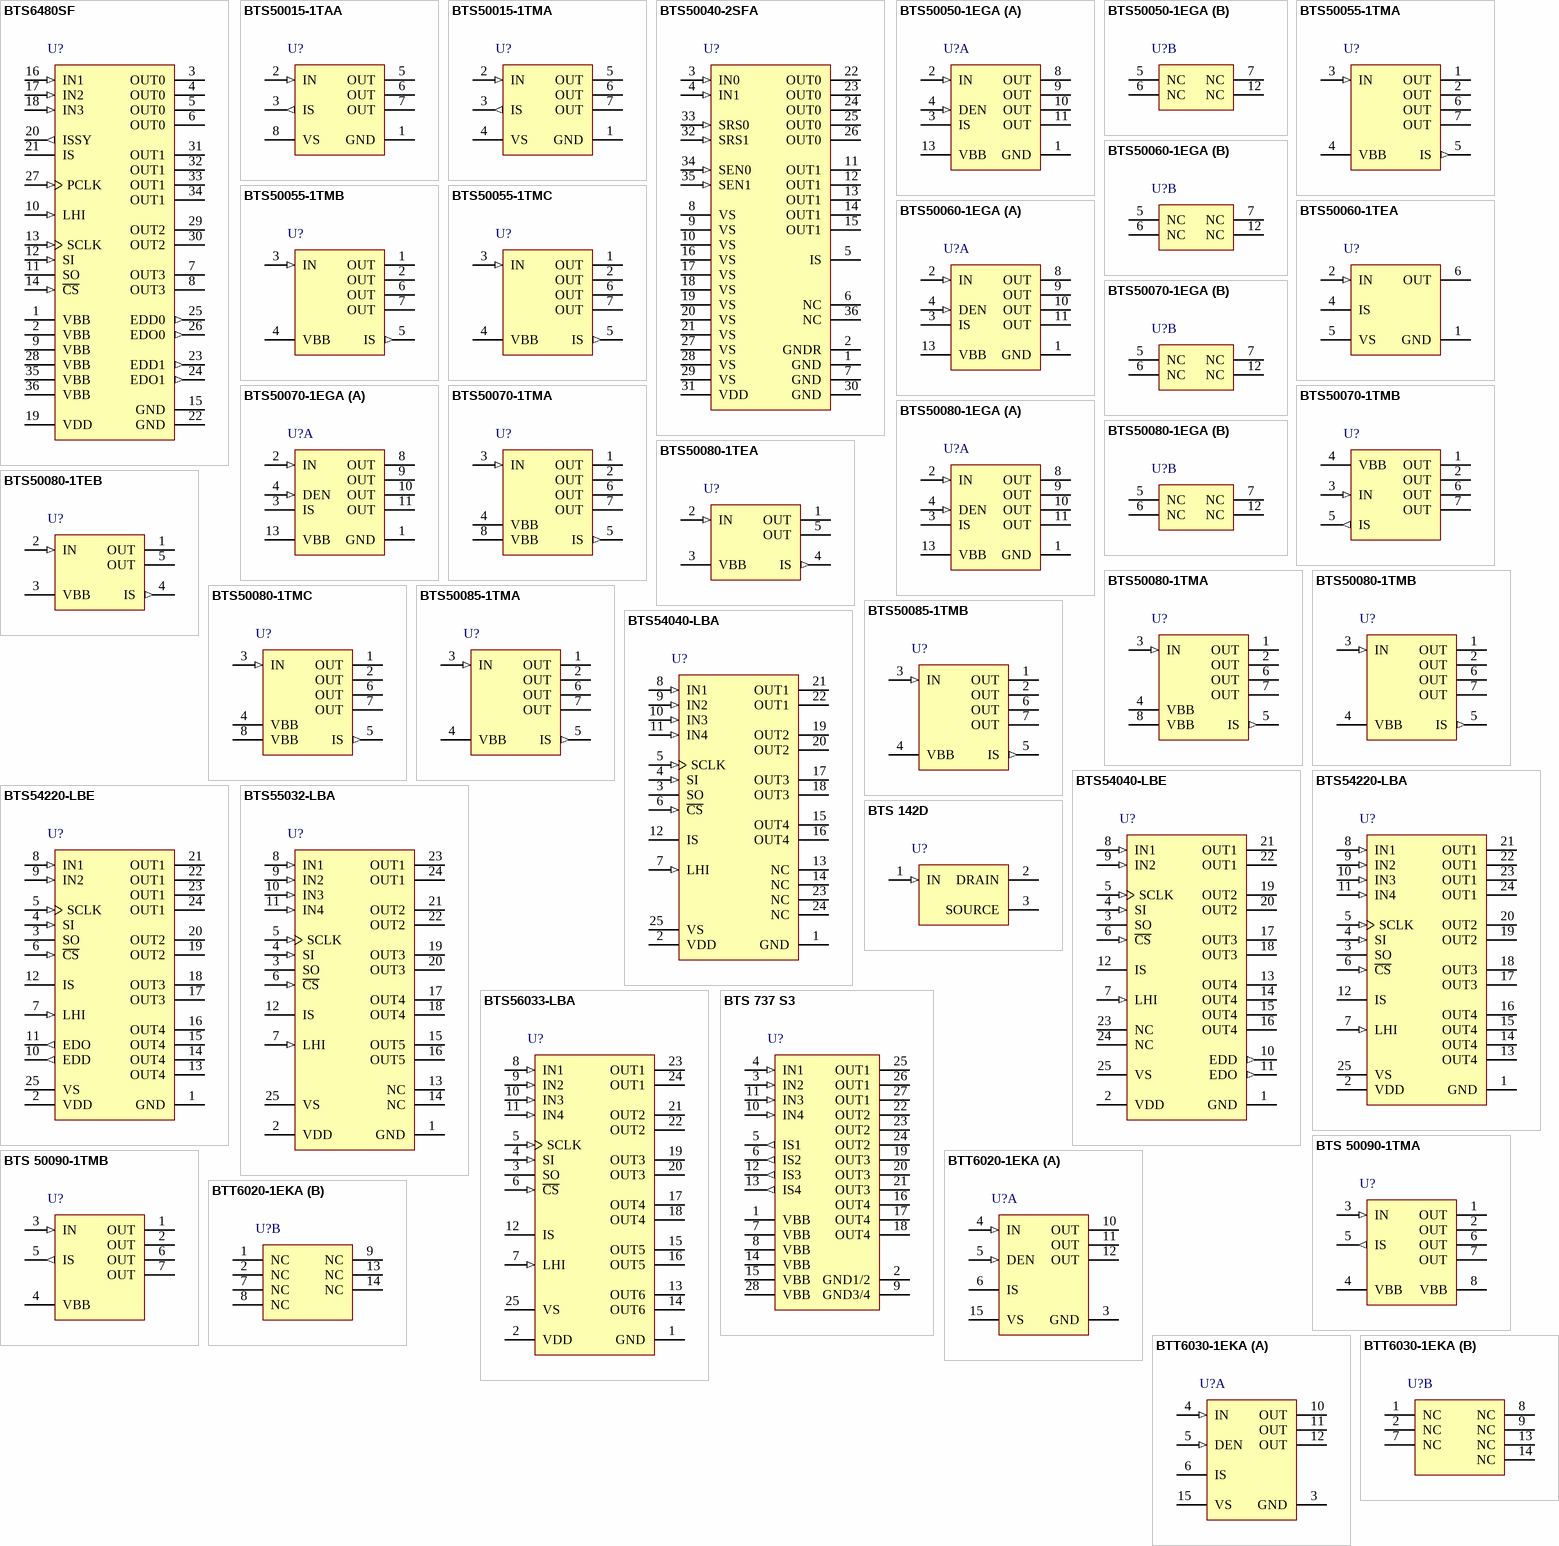
[diagram p4: symbols BTS6480SF to BTT6030-1EKA]

## BTS6480SF
designator U?
4 Channels SPI Power Controller for Advanced Front Light Control, PG-DSO-36-43, Reel, Green; Manufacturer: Infineon; PartNumber: BTS6480SF; Adjustable Slewrate: FALSE; Channels: 4; External drive capability: TRUE; DatasheetVersion: Rev. 1.0; PackageVersion: Nov-11; PackageReference: PG-DSO-36-43; PackageDescription: 36-Pin Plastic (Green) Dual Small Outline Package, 12.7 x 7.5 mm Body, 0.65 mm Pitch; Supplier 1: Mouser; Supplier Part Number 1: 726-BTS6480SF; Supplier 2: Digi-Key; Supplier Part Number 2: BTS6480SF-ND; Cranking mode: FALSE; Green: TRUE; Halogen-free: TRUE; LED mode: TRUE; Packing: Reel; PWM engine integrated: TRUE; ReversaveTM: TRUE; Mounting Technology: Surface Mount; ComponentLink1Description: Manufacturer URL; ComponentLink1URL: http://www.infineon.com/; ComponentLink2Description: Datasheet; ComponentLink2URL: http://www.infineon.com/dgdl/BTS6480SF_DS_10.pdf?folderId=db3a304318f3fe2901191430ce780274&fileId=db3a3043284aacd80128687328667e0c&location=en.Products.Automotive_ICs.Smart_High-_and_Low-Side_Switches.SPOC_-_SPI_Power_Controller.DATASHEET.BTS6480SF_DS_10.pdf; ComponentLink3Description: Package Specification; ComponentLink3URL: http://www.infineon.com/dgdl/BTS5481SF_DS10_2011-11-17.pdf?folderId=db3a304318f3fe2901191430ce780274&fileId=db3a304336797ff901368175ff540e31&sId=db3a30433d68e984013d7f6c334b74fb
footprint INF-PG-DSO-36-43_N (SOP, 36-Leads, Body 12.7x7.5mm, Pitch 0.65mm, IPC Medium Density)
footprint INF-PG-DSO-36-43_L (SOP, 36-Leads, Body 12.7x7.5mm, Pitch 0.65mm, IPC High Density)
footprint INF-PG-DSO-36-43_M (SOP, 36-Leads, Body 12.7x7.5mm, Pitch 0.65mm, IPC Low Density)
pins: 1 VBB (power) "Positive power supply for high-side power switch", 2 VBB (power) "Positive power supply for high-side power switch", 3 OUT0 (power) "Protected high-side power output of channel 0", 4 OUT0 (power) "Protected high-side power output of channel 0", 5 OUT0 (power) "Protected high-side power output of channel 0", 6 OUT0 (power) "Protected high-side power output of channel 0", 7 OUT3 (power) "Protected high-side power output of channel 3", 8 OUT3 (power) "Protected high-side power output of channel 3", 9 VBB (power) "Positive power supply for high-side power switch", 10 LHI (in) "Limp home activation signal (high active)", 11 SO (hiz) "Serial output of SPI interface", 12 SI (in) "Serial input of SPI interface (high active)", 13 SCLK (in) "Serial clock of SPI interface", 14 ~{CS} (in) "Chip select of SPI interface (low active); Integrated pull up", 15 GND (power) "Ground connection", 16 IN1 (in) "Input signal of channel 1 (high active)", 17 IN2 (in) "Input signal of channel 2 (high active)", 18 IN3 (in) "Input signal of channel 3 (high active)", 19 VDD (power) "Logic supply (5 V)", 20 ISSY (out) "Current sense synchronization signal", 21 IS (hiz) "Current sense output signal", 22 GND (power) "Ground connection", 23 EDD1 (out) "External driver diagnosis enable signal of external driver 1", 24 EDO1 (out) "External driver output for activation of external driver 1", 25 EDD0 (out) "External driver diagnosis enable signal of external driver 0", 26 EDO0 (out) "External driver output for activation of external driver 0", 27 PCLK (in) "PWM clock reference signal", 28 VBB (power) "Positive power supply for high-side power switch", 29 OUT2 (power) "Protected high-side power output of channel 2", 30 OUT2 (power) "Protected high-side power output of channel 2", 31 OUT1 (power) "Protected high-side power output of channel 1", 32 OUT1 (power) "Protected high-side power output of channel 1", 33 OUT1 (power) "Protected high-side power output of channel 1", 34 OUT1 (power) "Protected high-side power output of channel 1", 35 VBB (power) "Positive power supply for high-side power switch", 36 VBB (power) "Positive power supply for high-side power switch"